# EAGLE library part 12AU7_S (library tubes)
TWIN TRIODE
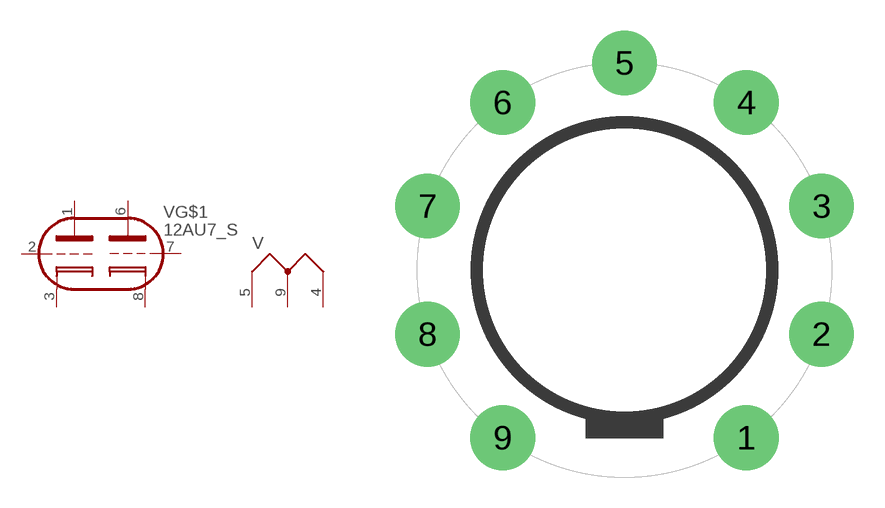
[diagram p2: symbol with the pads of SOCKET-9PIN; footprint SOCKET-9PIN]

Designator prefix V; gates G$1=TRIODE2 F=HTR2

## 12AU7_S  [SOCKET-9PIN]
1  G$1:A1  pas
2  G$1:G1  pas
3  G$1:C1  pas
4  F:F2  pas
5  F:F1  pas
6  G$1:A2  pas
7  G$1:G2  pas
8  G$1:C2  pas
9  F:FC  pas

## Footprint SOCKET-9PIN (pad centres in mm)
drill 1.93 pad 3.175: 1 5.972,-8.22; 2 9.663,-3.14; 3 9.663,3.14; 4 5.972,8.22; 5 0,10.16; 6 -5.972,8.22; 7 -9.663,3.14; 8 -9.663,-3.14; 9 -5.972,-8.22